# EAGLE library part CTB9550-8 (library mycomponents)
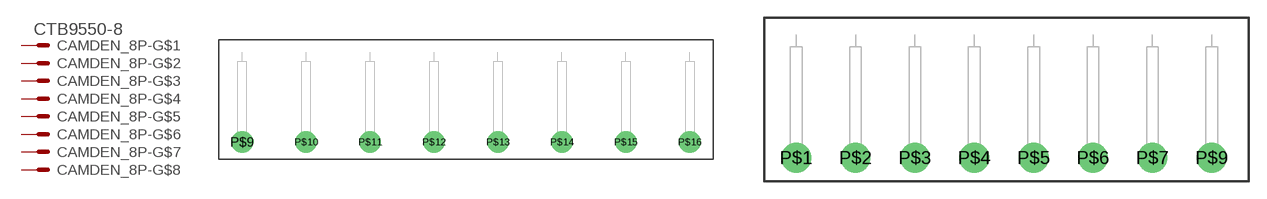
[diagram p0: symbol with the pads of CTB9550-8; footprints CTB9550-8, 508_8]

Designator prefix CAMDEN_8P-; gates G$1=MV G$2=M G$3=M G$4=M G$5=M G$6=M G$7=M G$8=M

## CTB9550-8  [CTB9550-8]
P$9  G$1:S  pas
P$10  G$2:S  pas
P$11  G$3:S  pas
P$12  G$4:S  pas
P$13  G$5:S  pas
P$14  G$6:S  pas
P$15  G$7:S  pas
P$16  G$8:S  pas

## CTB9550-8508  [508_8]
P$1  G$1:S  pas
P$2  G$2:S  pas
P$3  G$3:S  pas
P$4  G$4:S  pas
P$5  G$5:S  pas
P$6  G$6:S  pas
P$7  G$7:S  pas
P$9  G$8:S  pas

## Footprint CTB9550-8 (pad centres in mm)
drill 1.3 pad 2.54 round: P$9 0,0; P$10 7.5,0; P$11 15,0; P$12 22.5,0; P$13 30,0; P$14 37.5,0; P$15 45,0; P$16 52.5,0

## Footprint 508_8 (pad centres in mm)
drill 1.3 pad 2.54 round: P$1 -17.78,-5.08; P$2 -12.7,-5.08; P$3 -7.62,-5.08; P$4 -2.54,-5.08; P$5 2.54,-5.08; P$6 7.62,-5.08; P$7 12.7,-5.08; P$9 17.78,-5.08